# EAGLE library part FPC-47WAY (library pimoroni-fpc)
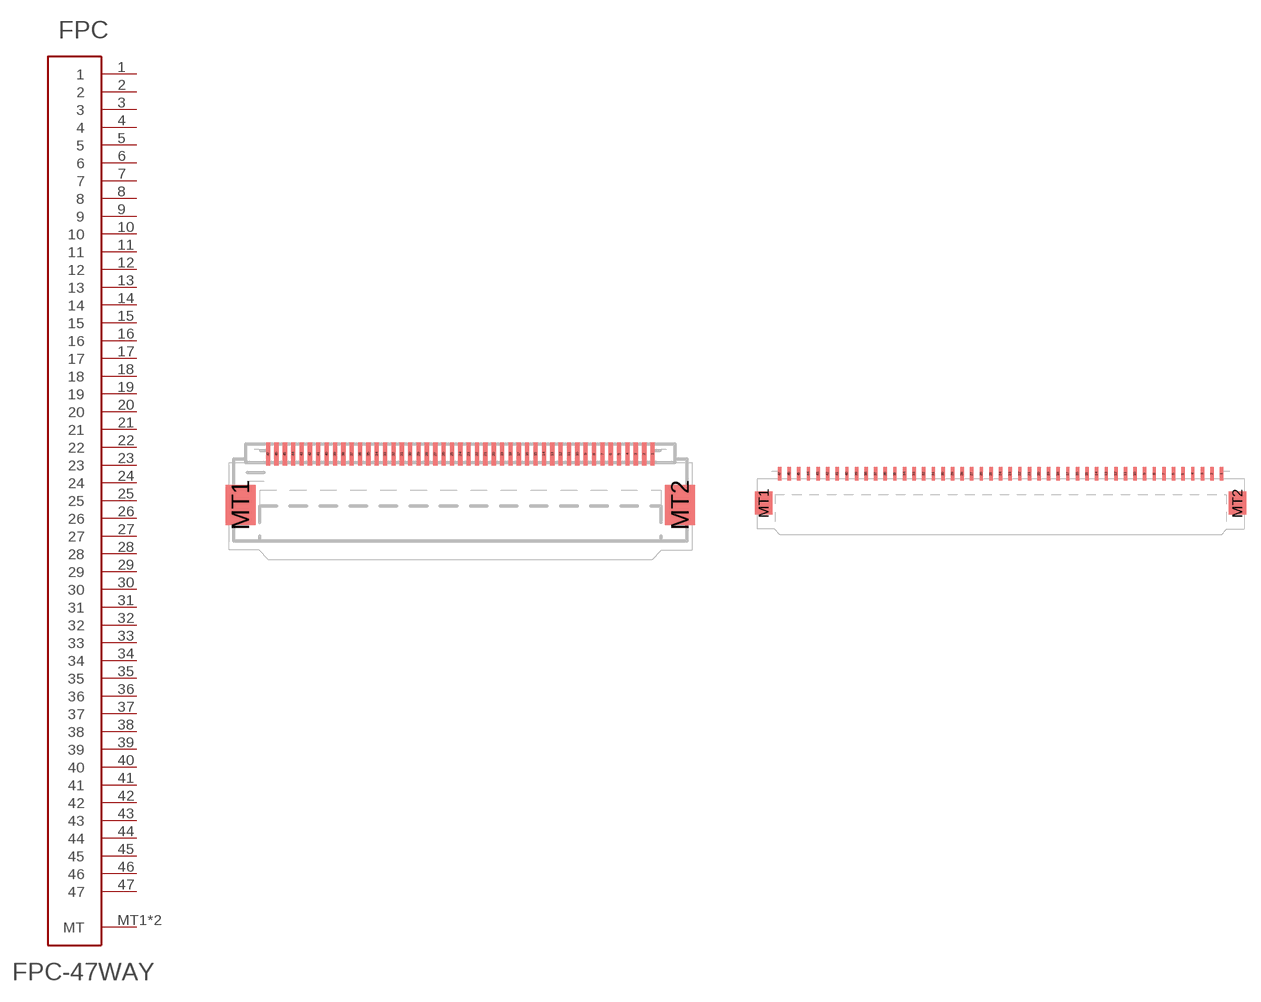
[diagram p42: symbol with the pads of FPC-0.5MM-47WAY; footprints FPC-0.5MM-47WAY, FPC-1.0MM-47WAY]

Designator prefix FPC

## FPC-47WAY0.5  [FPC-0.5MM-47WAY]
1  1
2  2
3  3
4  4
5  5
6  6
7  7
8  8
9  9
10  10
11  11
12  12
13  13
14  14
15  15
16  16
17  17
18  18
19  19
20  20
21  21
22  22
23  23
24  24
25  25
26  26
27  27
28  28
29  29
30  30
31  31
32  32
33  33
34  34
35  35
36  36
37  37
38  38
39  39
40  40
41  41
42  42
43  43
44  44
45  45
46  46
47  47
MT1  MT
MT2  MT

## FPC-47WAY1.0  [FPC-1.0MM-47WAY]
Pads as for FPC-0.5MM-47WAY

## Footprint FPC-0.5MM-47WAY (pad centres in mm)
smd 0.25 x 1.4: 1 11.5,0.7; 2 11,0.7; 3 10.5,0.7; 4 10,0.7; 5 9.5,0.7; 6 9,0.7; 7 8.5,0.7; 8 8,0.7; 9 7.5,0.7; 10 7,0.7; 11 6.5,0.7; 12 6,0.7; 13 5.5,0.7; 14 5,0.7; 15 4.5,0.7; 16 4,0.7; 17 3.5,0.7; 18 3,0.7; 19 2.5,0.7; 20 2,0.7; 21 1.5,0.7; 22 1,0.7; 23 0.5,0.7; 24 0,0.7; 25 -0.5,0.7; 26 -1,0.7; 27 -1.5,0.7; 28 -2,0.7; 29 -2.5,0.7; 30 -3,0.7; 31 -3.5,0.7; 32 -4,0.7; 33 -4.5,0.7; 34 -5,0.7; 35 -5.5,0.7; 36 -6,0.7; 37 -6.5,0.7; 38 -7,0.7; 39 -7.5,0.7; 40 -8,0.7; 41 -8.5,0.7; 42 -9,0.7; 43 -9.5,0.7; 44 -10,0.7; 45 -10.5,0.7; 46 -11,0.7; 47 -11.5,0.7
smd 1.8 x 2.4: MT1 -13.15,-2.35; MT2 13.15,-2.35

## Footprint FPC-1.0MM-47WAY (pad centres in mm)
smd 0.35 x 1.4: 1 23,0.7; 2 22,0.7; 3 21,0.7; 4 20,0.7; 5 19,0.7; 6 18,0.7; 7 17,0.7; 8 16,0.7; 9 15,0.7; 10 14,0.7; 11 13,0.7; 12 12,0.7; 13 11,0.7; 14 10,0.7; 15 9,0.7; 16 8,0.7; 17 7,0.7; 18 6,0.7; 19 5,0.7; 20 4,0.7; 21 3,0.7; 22 2,0.7; 23 1,0.7; 24 0,0.7; 25 -1,0.7; 26 -2,0.7; 27 -3,0.7; 28 -4,0.7; 29 -5,0.7; 30 -6,0.7; 31 -7,0.7; 32 -8,0.7; 33 -9,0.7; 34 -10,0.7; 35 -11,0.7; 36 -12,0.7; 37 -13,0.7; 38 -14,0.7; 39 -15,0.7; 40 -16,0.7; 41 -17,0.7; 42 -18,0.7; 43 -19,0.7; 44 -20,0.7; 45 -21,0.7; 46 -22,0.7; 47 -23,0.7
smd 1.8 x 2.4: MT1 -24.65,-2.35; MT2 24.65,-2.35